# Altium footprint library COIL 68uH LCLS.PcbLib: 1 footprints
Each footprint in its own frame and in the unit in brackets; x right, y up, seen from the top. Pads: shape width x height; smd on the part's side, far side on the other; paste and mask are expansions set on the pad; w line width, h text height; cw(c..) or ccw(c..) is an arc to the next point about the centre after c.
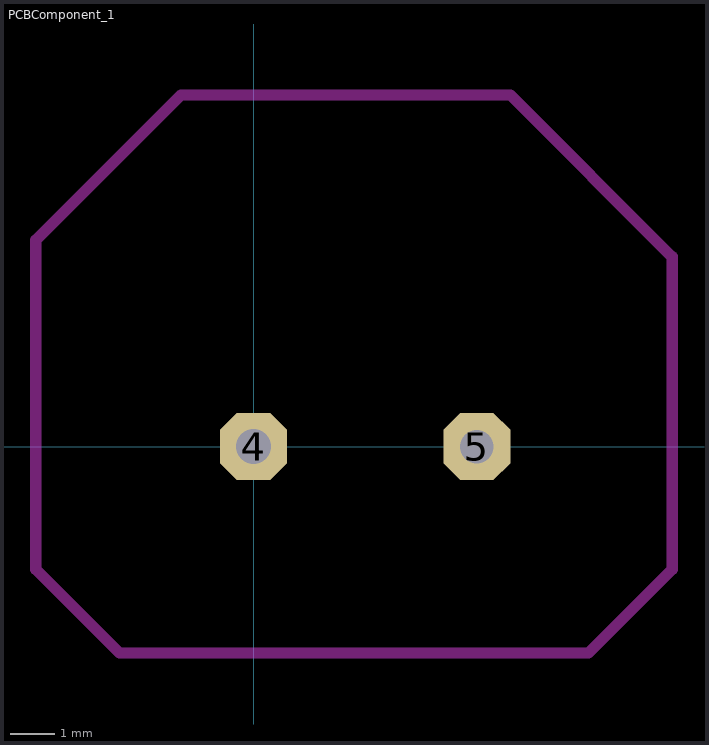
[diagram p0: the footprint, top view; thin cyan lines are the x and y axes]

## PCBComponent_1 [mil]
pads (2):
  oct 60x60 hole 31.5: 4(0,0)
  oct 60x60 hole 30: 5(200,0)
Keep-Out Layer:
  lines w10: -195,-110 -120,-185 300,-185 375,-110 375,170 230,315 -65,315 -195,185 -195,-110